# EAGLE library part LMP7702MM/NOPB (library NM_Visual_Cortex_12-10-18)
Op Amps Prec RRIO 12V Dual Op Amp
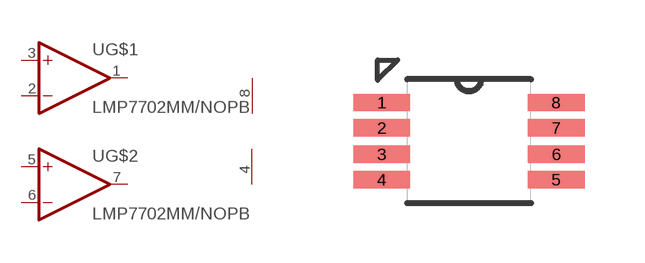
[diagram p9: symbol with the pads of VSSOP8; footprint VSSOP8]

Designator prefix -; gates G$1=OPAMP G$2=OPAMP G$3=PWR+-

## LMP7702MM/NOPBVSSOP (DESCRIPTION: Op Amps Prec RRIO 12V Dual Op Amp; MF: Texas Instruments; MP: LMP7702MM/NOPB; PACKAGE: MSOP-8)  [VSSOP8]
1  G$1:OUT  out
2  G$1:-IN  in
3  G$1:+IN  in
4  G$3:V-  pwr
5  G$2:+IN  in
6  G$2:-IN  in
7  G$2:OUT  out
8  G$3:V+  pwr

## Footprint VSSOP8 (pad centres in mm)
smd 1.422 x 0.432: 1 -2.184,0.965; 2 -2.184,0.33; 3 -2.184,-0.33; 4 -2.184,-0.965; 5 2.184,-0.965; 6 2.184,-0.33; 7 2.184,0.33; 8 2.184,0.965